# Altium footprint library SamacSys.PcbLib: 9 footprints
Each footprint in its own frame and in the unit in brackets; x right, y up, seen from the top. Pads: shape width x height; smd on the part's side, far side on the other; paste and mask are expansions set on the pad; w line width, h text height; cw(c..) or ccw(c..) is an arc to the next point about the centre after c.
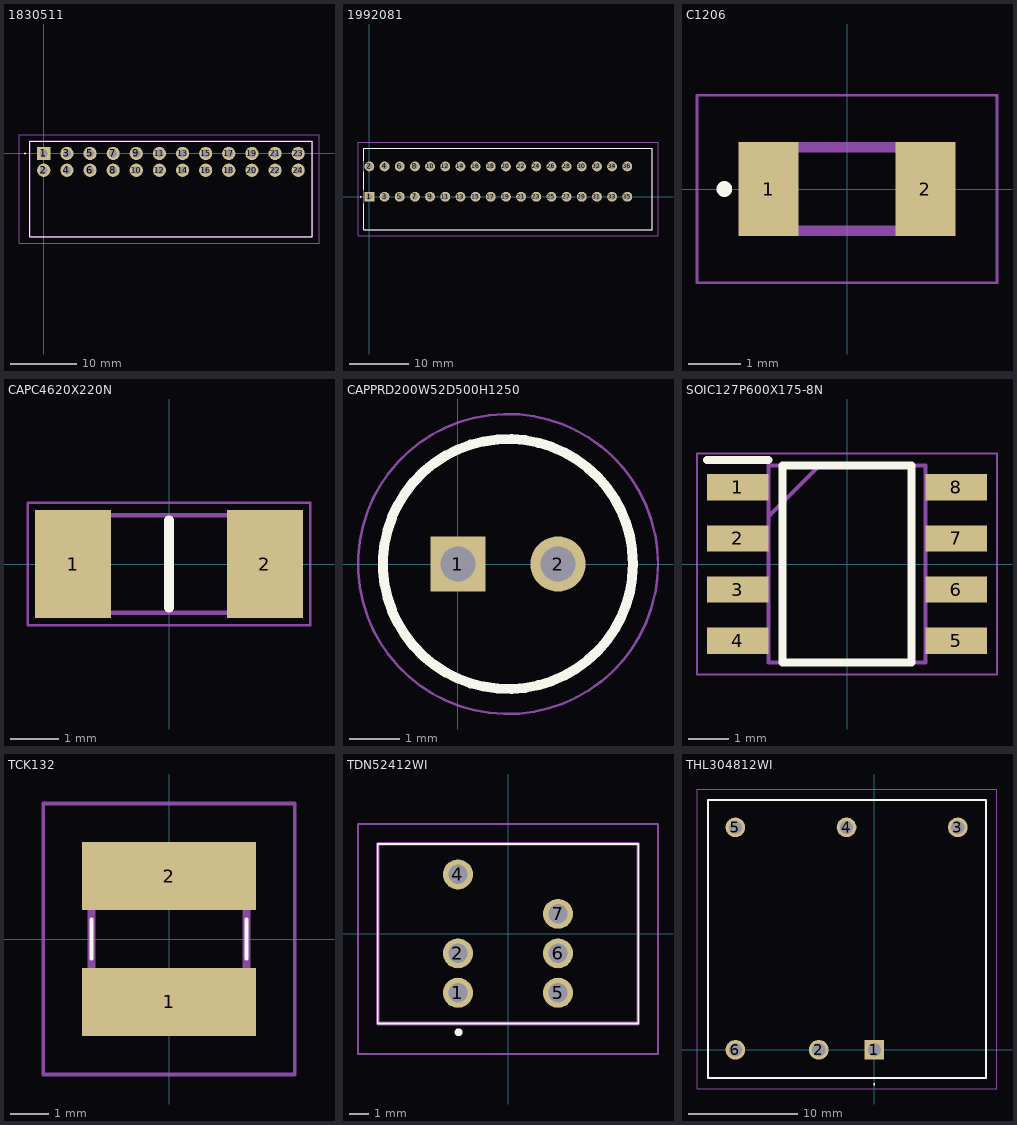
[diagram p0: the footprints below, top view; thin cyan lines are the x and y axes]

## 1830511 [mm]
pads (24):
  rect 2x2 hole 1.2: 1(0,0)
  round 2 hole 1.2: 2(0,-2.54) 3(3.5,0) 4(3.5,-2.54) 5(7,0) 6(7,-2.54) 7(10.5,0) 8(10.5,-2.54) 9(14,0) 10(14,-2.54) 11(17.5,0) 12(17.5,-2.54) 13(21,0) 14(21,-2.54) 15(24.5,0) 16(24.5,-2.54) 17(28,0) 18(28,-2.54) 19(31.5,0) 20(31.5,-2.54) 21(35,0) 22(35,-2.54) 23(38.5,0) 24(38.5,-2.54)
Top Overlay:
  circle w0.2: c-2.85,0 r0.05
  lines w0.1: -2.15,-12.6 40.65,-12.6 40.65,1.85 -2.15,1.85 -2.15,-12.6
Mechanical 13:
  lines w0.2: -2.15,-12.6 40.65,-12.6 40.65,1.85 -2.15,1.85 -2.15,-12.6
Mechanical 15:
  lines w0.05: -3.75,-13.6 41.65,-13.6 41.65,2.85 -3.75,2.85 -3.75,-13.6
3D body "1830511.stp": height 6.75, standoff -1.54, extent -2.07,-12.75 40.73,1.7

## 1992081 [mm]
pads (36):
  rect 1.65x1.65 hole 1.1: 1(0,0)
  round 1.65 hole 1.1: 2(0,5.08) 3(2.54,0) 4(2.54,5.08) 5(5.08,0) 6(5.08,5.08) 7(7.62,0) 8(7.62,5.08) 9(10.16,0) 10(10.16,5.08) 11(12.7,0) 12(12.7,5.08) 13(15.24,0) 14(15.24,5.08) 15(17.78,0) 16(17.78,5.08) 17(20.32,0) 18(20.32,5.08) 19(22.86,0) 20(22.86,5.08) 21(25.4,0) 22(25.4,5.08) 23(27.94,0) 24(27.94,5.08) 25(30.48,0) 26(30.48,5.08) 27(33.02,0) 28(33.02,5.08) 29(35.56,0) 30(35.56,5.08) 31(38.1,0) 32(38.1,5.08) 33(40.64,0) 34(40.64,5.08) 35(43.18,0) 36(43.18,5.08)
Top Overlay:
  lines w0.1: -1.5,0 cw(c-1.45,0) -1.4,0 cw(c-1.45,0) -1.5,0
  lines w0.2: -0.9,-1.2 -0.9,-5.5 47.32,-5.5 47.32,8.1 -0.9,8.1 -0.9,6 ; -0.9,1.2 -0.9,4.2
Mechanical 13:
  lines w0.1: -0.9,-5.5 -0.9,8.1 47.32,8.1 47.32,-5.5 -0.9,-5.5
Mechanical 15:
  lines w0.1: -1.9,-6.5 -1.9,9.1 48.32,9.1 48.32,-6.5 -1.9,-6.5
3D body "1992081.stp": height 12.7, standoff -5, extent -0.9,-5.5 47.32,8.1

## C1206 [mm]
pads (2):
  rect 1.15x1.8 smd: 1(-1.5,0) 2(1.5,0)
Top Overlay:
  circle w0.2: c-2.35,0 r0.05
Mechanical 13:
  lines w0.2: -1.6,-0.8 -1.6,0.8 1.6,0.8 1.6,-0.8 -1.6,-0.8
Mechanical 15:
  lines w0.05: -2.875,-1.8 -2.875,1.8 2.875,1.8 2.875,-1.8 -2.875,-1.8
3D body "C1206C222MGRACTU.stp": height 1.75, standoff 0, extent -1.7,-0.9 1.7,0.9

## CAPC4620X220N [mm]
pads (2):
  rect 1.56x2.22 smd: 1(-1.97,0) 2(1.97,0)
Top Overlay:
  lines w0.2: 0,-0.9 0,0.9
Mechanical 13:
  lines w0.1: -2.3,-1 -2.3,1 2.3,1 2.3,-1 -2.3,-1
Mechanical 15:
  lines w0.05: -2.9,-1.26 -2.9,1.26 2.9,1.26 2.9,-1.26 -2.9,-1.26
3D body "1808HC681KAT2A.stp": height 2.2, standoff 0, extent -2.3,-1 2.3,1

## CAPPRD200W52D500H1250 [mm]
pads (2):
  rect 1.1x1.1 hole 0.7: 1(0,0)
  round 1.1 hole 0.7: 2(2,0)
Top Overlay:
  circle w0.2: c1,0 r2.5
Mechanical 13:
  circle w0.1: c1,0 r2.5
Mechanical 15:
  circle w0.05: c1,0 r3
3D body "860240272001.stp": height 12.5, standoff -10, extent -1.738,-2.747 3.75,2.747

## SOIC127P600X175-8N [mm]
pads (8):
  rect 1.525x0.65 smd: 1(-2.712,1.905) 2(-2.712,0.635) 3(-2.712,-0.635) 4(-2.712,-1.905) 5(2.712,-1.905) 6(2.712,-0.635) 7(2.712,0.635) 8(2.712,1.905)
Top Overlay:
  lines w0.2: -3.475,2.58 -1.95,2.58 ; -1.6,-2.45 -1.6,2.45 1.6,2.45 1.6,-2.45 -1.6,-2.45
Mechanical 13:
  lines w0.1: -1.95,1.18 -0.68,2.45 ; -1.95,-2.45 -1.95,2.45 1.95,2.45 1.95,-2.45 -1.95,-2.45
Mechanical 15:
  lines w0.05: -3.725,-2.75 -3.725,2.75 3.725,2.75 3.725,-2.75 -3.725,-2.75
3D body "NE555DR.stp": height 1.75, standoff 0, extent -3,-2.45 3,2.45

## TCK132 [mm]
pads (2):
  rect 4.5x1.75 smd: 1(0,-1.625) 2(0,1.625)
Top Overlay:
  lines w0.1: -2,-0.5 -2,0.5 -2,-0.5 ; 2,-0.5 2,0.5 2,-0.5
Mechanical 13:
  lines w0.2: -2,-2.25 2,-2.25 2,2.25 -2,2.25 -2,-2.25
Mechanical 15:
  lines w0.1: -3.25,-3.5 3.25,-3.5 3.25,3.5 -3.25,3.5 -3.25,-3.5

## TDN52412WI [mm]
pads (6):
  round 1.524 hole 0.98: 1(-2.535,-3) 2(-2.535,-1) 4(-2.535,3) 5(2.535,-3) 6(2.535,-1) 7(2.535,1)
Top Overlay:
  lines w0.1: -6.6,-4.55 -6.6,4.55 6.6,4.55 6.6,-4.55 -6.6,-4.55
  lines w0.2: -2.6,-5 ccw(c-2.5,-5) -2.4,-5 ccw(c-2.5,-5) -2.6,-5
Mechanical 13:
  lines w0.2: -6.6,-4.55 -6.6,4.55 6.6,4.55 6.6,-4.55 -6.6,-4.55
Mechanical 15:
  lines w0.1: -7.6,-6.1 -7.6,5.55 7.6,5.55 7.6,-6.1 -7.6,-6.1
3D body "TDN_5-4810WI.stp": height 10.24, standoff -4.44, extent -6.601,-4.544 6.599,4.556

## THL304812WI [mm]
pads (6):
  rect 1.8x1.8 hole 1.2: 1(0,0)
  round 1.8 hole 1.2: 2(-5.08,0) 3(7.62,20.32) 4(-2.54,20.32) 5(-12.7,20.32) 6(-12.7,0)
Top Overlay:
  lines w0.1: 0,-3.2 ccw(c0,-3.15) 0,-3.1 ccw(c0,-3.15) 0,-3.2
  lines w0.2: -15.2,-2.58 -15.2,22.82 10.2,22.82 10.2,-2.58 -15.2,-2.58
Mechanical 13:
  lines w0.1: -15.2,-2.58 -15.2,22.82 10.2,22.82 10.2,-2.58 -15.2,-2.58
Mechanical 15:
  lines w0.1: -16.2,-3.58 -16.2,23.82 11.2,23.82 11.2,-3.58 -16.2,-3.58
3D body "THL_30-4812WI.stp": height 10.32, standoff -5.88, extent -15.2,-2.58 10.2,22.82